# EAGLE library part W25Q128BVEIG (library W25Q128JVSIQ)
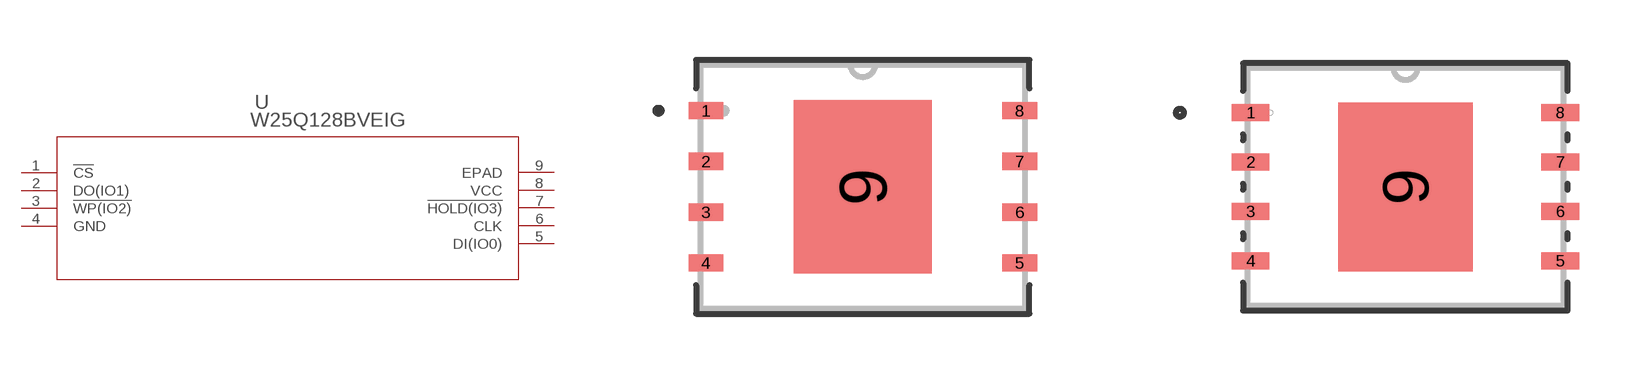
[diagram p0: symbol with the pads of WIN_E-8_WIN; footprints WIN_E-8_WIN, WIN_E-8_WIN-M]

Designator prefix U

## W25Q128BVEIG (COPYRIGHT: Copyright (C) 2021 Ultra Librarian. All rights reserved.; MANUFACTURER_PART_NUMBER: W25Q128BVEIG; MFR_NAME: Winbond)  [WIN_E-8_WIN]
1  !CS  in
2  DO(IO1)
3  !WP(IO2)
4  GND  pwr
5  DI(IO0)
6  CLK  in
7  !HOLD(IO3)
8  VCC  pwr
9  EPAD  pas

## W25Q128BVEIGWIN_E-8_WIN-M (COPYRIGHT: Copyright (C) 2021 Ultra Librarian. All rights reserved.; MANUFACTURER_PART_NUMBER: W25Q128BVEIG; MFR_NAME: Winbond)  [WIN_E-8_WIN-M]
Pads as for WIN_E-8_WIN

## W25Q128BVEIGWIN_E-8_WIN-L (COPYRIGHT: Copyright (C) 2021 Ultra Librarian. All rights reserved.; MANUFACTURER_PART_NUMBER: W25Q128BVEIG; MFR_NAME: Winbond)  [WIN_E-8_WIN-L]
Pads as for WIN_E-8_WIN

## Footprint WIN_E-8_WIN (pad centres in mm)
smd 0.864 x 0.432: 1 -3.924,1.905; 2 -3.924,0.635; 3 -3.924,-0.635; 4 -3.924,-1.905; 5 3.924,-1.905; 6 3.924,-0.635; 7 3.924,0.635; 8 3.924,1.905
smd 3.454 x 4.343: 9 0,0

## Footprint WIN_E-8_WIN-M (pad centres in mm)
smd 0.965 x 0.432: 1 -3.975,1.905; 2 -3.975,0.635; 3 -3.975,-0.635; 4 -3.975,-1.905; 5 3.975,-1.905; 6 3.975,-0.635; 7 3.975,0.635; 8 3.975,1.905
smd 3.454 x 4.343: 9 0,0

## Footprint WIN_E-8_WIN-L (pad centres in mm)
smd 0.762 x 0.432: 1 -3.873,1.905; 2 -3.873,0.635; 3 -3.873,-0.635; 4 -3.873,-1.905; 5 3.873,-1.905; 6 3.873,-0.635; 7 3.873,0.635; 8 3.873,1.905
smd 3.454 x 4.343: 9 0,0